# Altium footprint library NRP14-C12DH_RYPS-08.PcbLib: 1 footprints
Each footprint in its own frame and in the unit in brackets; x right, y up, seen from the top. Pads: shape width x height; smd on the part's side, far side on the other; paste and mask are expansions set on the pad; w line width, h text height; cw(c..) or ccw(c..) is an arc to the next point about the centre after c.
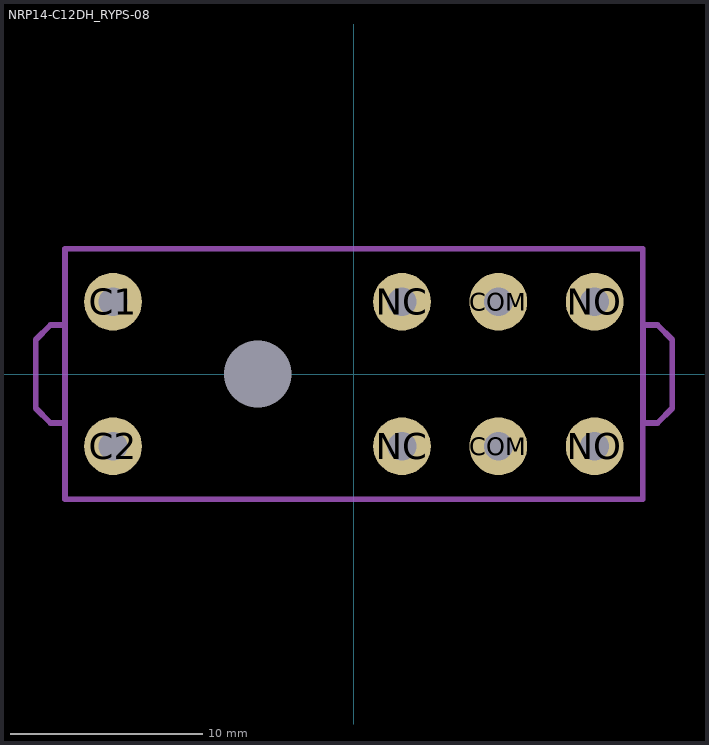
[diagram p0: the footprint, top view; thin cyan lines are the x and y axes]

## NRP14-C12DH_RYPS-08 [mm]
pads (9):
  round 0 hole 3.5 unplated: 3(-5,0)
  round 3 hole 1.5: C1(-12.5,3.75) C2(-12.5,-3.75) COM(7.5,-3.75) COM(7.5,3.75) NC(2.5,-3.75) NC(2.5,3.75) NO(12.5,-3.75) NO(12.5,3.75)
Mechanical 13:
  lines w0.3: -16.51,-1.778 -16.51,1.778 -15.748,2.54 -15,2.54 -15,-2.54 -15.748,-2.54 -16.51,-1.778 ; -15,-6.5 -15,6.5 15,6.5 15,-6.5 -15,-6.5 ; 15.014,-2.54 15.762,-2.54 16.524,-1.778 16.524,1.778 15.762,2.54 15.014,2.54 15.014,-2.54
  text ".Designator" at -7.547,-0.508 h2.5
3D body: height 3, standoff 0, extent -16.511,-2.541 -14.999,2.541
3D body: height 3, standoff 0, extent 15.013,-2.541 16.525,2.541
3D body: height 27.5, standoff 6.5, extent -15.113,-6.65 15.187,6.65
3D body: height 6.5, standoff 0, extent -15.15,-6.65 15.15,6.65